# Altium footprint library UCDFR Misc.PcbLib: 16 footprints
Each footprint in its own frame and in the unit in brackets; x right, y up, seen from the top. Pads: shape width x height; smd on the part's side, far side on the other; paste and mask are expansions set on the pad; w line width, h text height; cw(c..) or ccw(c..) is an arc to the next point about the centre after c.
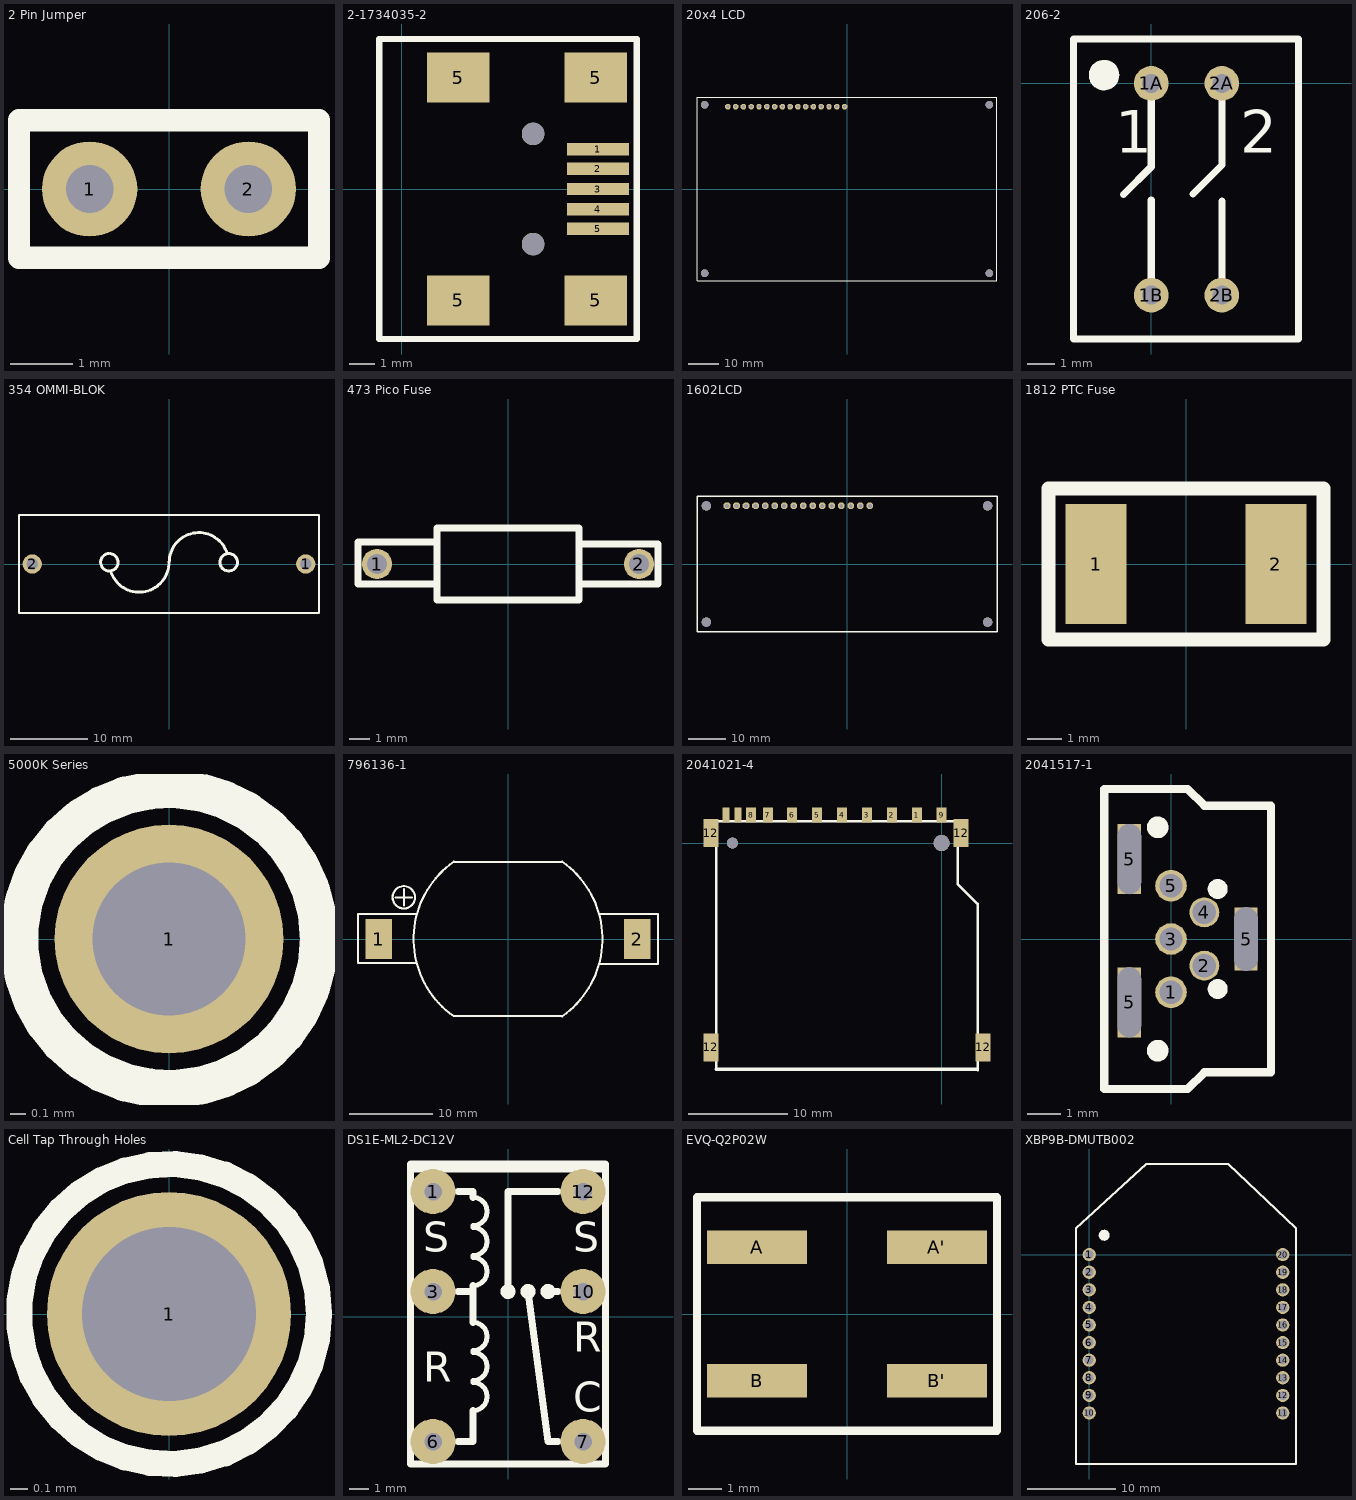
[diagram p0: the footprints below, top view; thin cyan lines are the x and y axes]

## 2 Pin Jumper [mil]
pads (2):
  round 60 hole 30: 1(-50,0) 2(50,0)
Top Overlay:
  lines w14: -94.49,-43.31 94.49,-43.31 94.49,43.31 -94.49,43.31 -94.49,-43.31

## 2-1734035-2 [mm] "TE Mini-USB Type B Receptacle, 5-pins"
height 3.95
pads (11):
  rect 2.5x0.5 smd: 1(7.85,1.6) 2(7.85,0.8) 3(7.85,0) 4(7.85,-0.8) 5(7.85,-1.6)
  rect 2.5x2 smd: 5(2.25,-4.45) 5(2.25,4.45) 5(7.75,-4.45) 5(7.75,4.45)
  round 0.9 hole 0.9 unplated: ""(5.25,-2.2) ""(5.25,2.2)
Top Overlay:
  lines w0.254: -0.9,-6 -0.9,6 9.4,6 9.4,-6 -0.9,-6
3D body: height 4.14, standoff -0.95, extent -0.7,-4.95 8.5,4.95

## 20x4 LCD [mm]
pads (20):
  oct 1.778x1.778 hole 1.016: 1(-38.9,26.9) 2(-36.36,26.9) 3(-33.82,26.9) 4(-31.28,26.9) 5(-28.74,26.9) 6(-26.2,26.9) 7(-23.66,26.9) 8(-21.12,26.9) 9(-18.58,26.9) 10(-16.04,26.9) 11(-13.5,26.9) 12(-10.96,26.9) 13(-8.42,26.9) 14(-5.88,26.9) 15(-3.34,26.9) 16(-0.8,26.9)
  round 2.5 hole 2.5: ""(-46.5,-27.5) ""(-46.5,27.5) ""(46.5,-27.5) ""(46.5,27.5)
Top Overlay:
  lines w0.356: -49,-30 49,-30 49,30 -49,30 -49,-30

## 206-2 [mm] "CTS 2-SPST, Switch"
pads (4):
  round 1.25 hole 0.68: 1A(0,0) 1B(0,-7.62) 2A(2.54,0) 2B(2.54,-7.62)
Top Overlay:
  circle w0.254: c-1.7,0.3 r0.224
  circle w0.254: c-1.7,0.3 r0.424
  lines w0.254: -1.7,0.3 -1.476,0.3 ; -1,-4 0,-3 0,0 ; 0,-7.62 0,-4.2 ; 1.5,-3.98 2.54,-2.94 2.54,0 ; 2.54,-7.62 2.54,-4.24 ; -2.8,-9.2 5.3,-9.2 5.3,1.6 -2.8,1.6 -2.8,-9.2
  text "2" at 3.2,-2.5 h1.52
  text "1" at -1.3,-2.5 h1.52
3D body: height 8.51, standoff -4.34, extent -2.51,-8.69 5.11,1.09

## 354 OMMI-BLOK [mm] "LittelFuse 354 Fuse Block"
pads (2):
  round 2.5 hole 1.524: 1(17.78,0) 2(-17.78,0)
Top Overlay:
  lines w0.254: -19.5,-6.35 -19.5,6.35 19.5,6.35 19.5,-6.35 -19.5,-6.35
  lines w0.388: -7.79,1.357 ccw(c-7.757,0.224) -7.597,1.346 ; -7.569,-0.983 ccw(c-3.877,0.224) 0,0 ; 0.031,0.192 cw(c3.883,0.224) 7.567,1.346 ; 7.795,1.357 ccw(c7.763,0.224) 7.923,1.346

## 473 Pico Fuse [mm] "LittelFuse, 473 PicoFuse"
pads (2):
  round 1.524 hole 1: 1(-6.55,0) 2(6.55,0)
Top Overlay:
  lines w0.356: -3.55,-1 -7.5,-1 -7.5,1.1 -3.55,1.1 ; 3.55,1 7.5,1 7.5,-1 3.6,-1 ; -3.55,-1.8 -3.55,1.8 3.55,1.8 3.55,-1.8 -3.55,-1.8

## 1602LCD [mm]
pads (20):
  oct 1.778x1.778 hole 1.016: 1(-32,15.5) 2(-29.46,15.5) 3(-26.92,15.5) 4(-24.38,15.5) 5(-21.84,15.5) 6(-19.3,15.5) 7(-16.76,15.5) 8(-14.22,15.5) 9(-11.68,15.5) 10(-9.14,15.5) 11(-6.6,15.5) 12(-4.06,15.5) 13(-1.52,15.5) 14(1.02,15.5) 15(3.56,15.5) 16(6.1,15.5)
  round 2.5 hole 2.5: ""(-37.5,-15.5) ""(-37.5,15.5) ""(37.5,-15.5) ""(37.5,15.5)
Top Overlay:
  lines w0.356: -40,-18 -40,18 40,18 40,-18 -40,-18
Mechanical 16:
  rectangle: -11.934,15.246 -11.426,15.754
  rectangle: -14.474,15.246 -13.966,15.754
  rectangle: -17.014,15.246 -16.506,15.754
  rectangle: -19.554,15.246 -19.046,15.754
  rectangle: -22.094,15.246 -21.586,15.754
  rectangle: -24.634,15.246 -24.126,15.754
  rectangle: -27.174,15.246 -26.666,15.754
  rectangle: -9.394,15.246 -8.886,15.754
  rectangle: -32.228,15.2 -31.72,15.708
  rectangle: -6.358,15.246 -5.85,15.754
  rectangle: -3.892,15.246 -3.384,15.754
  rectangle: -1.427,15.246 -0.919,15.754
  rectangle: 1.039,15.246 1.547,15.754
  rectangle: 3.504,15.246 4.012,15.754
  rectangle: 5.97,15.246 6.478,15.754
  rectangle: -29.72,15.2 -29.212,15.708

## 1812 PTC Fuse [mm] "Bel Fuse 1812 PTC Fuse"
pads (2):
  rect 1.78x3.5 smd: 1(-2.615,0) 2(2.615,0)
Top Overlay:
  lines w0.406: -4,2.1 -4,-2.2 4,-2.2 4,2.2 -4,2.2
3D body: height 0.91, standoff 0, extent -2.4,-1.705 2.33,1.705

## 5000K Series [mil] "Keystone .04\"D Test Point"
pads (1):
  round 60 hole 40.16: 1(0,0)
Top Overlay:
  circle w10: c0,0 r39.37
3D body: height 192.34, standoff -121.02, extent -50,-50 50,50

## 796136-1 [mm] "TE CR2032 Battery Holder"
height 5.9
pads (2):
  rect 3.15x4.78 smd: 1(-15.52,0) 2(15.52,0)
Top Overlay:
  circle w0.254: c-12.5,5 r1.342
  lines w0.254: -13.5,5 -11.5,5 ; -12.5,4 -12.5,6 ; -11,-2.9 -18,-2.9 -18,3 -11,3 ; -6.534,-9.256 cw(c0,0) -6.513,9.271 ; -6.5,-9.252 6.5,-9.252 ; -6.5,9.252 6.5,9.252 ; 6.513,-9.271 ccw(c0,0) 6.513,9.271 ; 10.9,3 18,3 18,-3 11,-3

## 2041021-4 [mm] "TE SD Card Slot, 11-pins"
height 2.8
pads (17):
  rect 1x1.5 smd: 1(-2.5,2.8) 2(-5,2.8) 3(-7.5,2.8) 4(-10,2.8) 5(-12.5,2.8) 6(-15,2.8) 7(-17.43,2.8) 8(-19.13,2.8) 9(0,2.8)
  rect 1.5x2.8 smd: 12(-23.15,-20.5) 12(-23.15,1) 12(1.95,1) 12(4.15,-20.5)
  rect 0.7x1.5 smd: CD(-20.43,2.8) WP(-21.63,2.8)
  round 1.1 hole 1.1 unplated: ""(-21,0)
  round 1.6 hole 1.6 unplated: ""(0,0)
Top Overlay:
  lines w0.254: -22.6,-22.7 -22.6,-2.1 -22.6,-2 -22.6,-0.1 -23.6,-0.1 -23.6,2.2 2.4,2.2 2.4,0 1.6,0 1.6,-4.1 3.6,-6.1 3.6,-22.8
  lines w0.356: -22.6,-22.7 3.5,-22.7
3D body: height 3.4, standoff -0.75, extent -23.523,-23.1 4.523,3.15

## 2041517-1 [mm] "TE Mini-USB Type B Receptacle, Vertical, 5-pins"
pads (8):
  round 0.95 hole 0.7: 1(0,-1.6) 3(0,0) 5(0,1.6)
  round 0.9 hole 0.7: 2(1,-0.8) 4(1,0.8)
  rect 0.7x2.1 hole 0.7 slot 2.1 at 90 deg: 5(-1.25,-1.9) 5(-1.25,2.4)
  rect 0.7x1.9 hole 0.7 slot 1.9 at 90 deg: 5(2.25,0)
Top Overlay:
  circle w0.2: c1.4,-1.5 r0.2
  circle w0.2: c1.4,1.5 r0.2
  circle w0.254: c-0.4,-3.35 r0.2
  circle w0.254: c-0.4,3.35 r0.2
  lines w0.254: -0.6,-3.4 -0.25,-3.4 -0.2,-3.35 ; -0.6,3.3 -0.25,3.3 ; 1.3,-1.6 1.4,-1.5 ; 1.3,1.4 1.4,1.5 1.4,1.6 ; -2,-4.5 0.5,-4.5 1,-4 3,-4 3,4 1,4 0.5,4.5 -2,4.5 -2,-4.5
Keep-Out Layer:
  lines w0.254: -0.25,3.3 -0.2,3.35
3D body: height 9, standoff -2.3, extent -1.667,-3.85 2.45,3.85

## Cell Tap Through Holes [mm]
pads (1):
  round 1.4 hole 1: 1(0,0)
Top Overlay:
  circle w0.15: c0,0 r0.86

## DS1E-ML2-DC12V [mil] "Panasonic Bistable, 2-Coil Relay"
pads (6):
  round 90 hole 35: 1(-150,250) 3(-150,50) 6(-150,-250) 7(150,-250) 10(150,50) 12(150,250)
Top Overlay:
  circle w10: c80,50 r10
  circle w10: c40,50 r10.09
  circle w10: c0,50 r10
  lines w10: -70,-188.28 ccw(c-70,-160) -70,-131.72 ; -70,-128.28 ccw(c-70,-100) -70,-71.72 ; -70,-68.28 ccw(c-70,-40) -70,-11.72 ; -70,61.72 ccw(c-70,90) -70,118.28 ; -70,121.72 ccw(c-70,150) -70,178.28 ; -70,181.72 ccw(c-70,210) -70,238.28
  lines w14: -100,-250 -70,-250 -70,-188.28 ; -100,50 -70,50 ; -100,250 -70,250 -70,238.28 ; -70,-11.72 -70,61.72 ; 0,50 0,250 40,250 100,250 ; 40,50 80,-250 100,-250 ; 80,50 100,50 ; 195,290 195,305 -195,305 -195,295 ; -195,295 195,295 195,-295 -195,-295 -195,295
  text "R" at -170,-130 h60
  text "S" at -170,130 h60
  text "S" at 130,130 h60
  text "R" at 130,-70 h60
  text "C" at 130,-190 h60

## EVQ-Q2P02W [mm] "Panasonic, SPST, SMD Switch"
height 2.5
pads (4):
  rect 3x1 smd: A(-2.7,2) A'(2.7,2) B(-2.7,-2) B'(2.7,-2)
Top Overlay:
  lines w0.254: -4.5,-3.5 -4.5,3.5 4.5,3.5 4.5,-3.5 -4.5,-3.5
3D body: height 2.5, standoff 0, extent -3.3,-3 3.3,3

## XBP9B-DMUTB002 [mm] "XBee Pro 900HP- **hole size for pin sockets**"
height 2.79
pads (20):
  round 1.5 hole 1.02: 1(0,0) 2(0,-2) 3(0,-4) 4(0,-6) 5(0,-8) 6(0,-10) 7(0,-12) 8(0,-14) 9(0,-16) 10(0,-18) 11(22,-18) 12(22,-16) 13(22,-14) 14(22,-12) 15(22,-10) 16(22,-8) 17(22,-6) 18(22,-4) 19(22,-2) 20(22,0)
Top Overlay:
  circle w0.254: c1.7,2.2 r0.141
  circle w0.254: c1.7,2.2 r0.283
  circle w0.254: c1.7,2.2 r0.5
  lines w0.254: -1.5,-23.8 -1.5,3 6.5,10.3 15.8,10.3 23.5,3 23.5,-23.8 -1.5,-23.8
3D body: height 4.54, standoff -4.5, extent -1.192,-23.272 23.192,9.672